# Altium footprint library SC_TSOP6.PcbLib: 1 footprints
Each footprint in its own frame and in the unit in brackets; x right, y up, seen from the top. Pads: shape width x height; smd on the part's side, far side on the other; paste and mask are expansions set on the pad; w line width, h text height; cw(c..) or ccw(c..) is an arc to the next point about the centre after c.
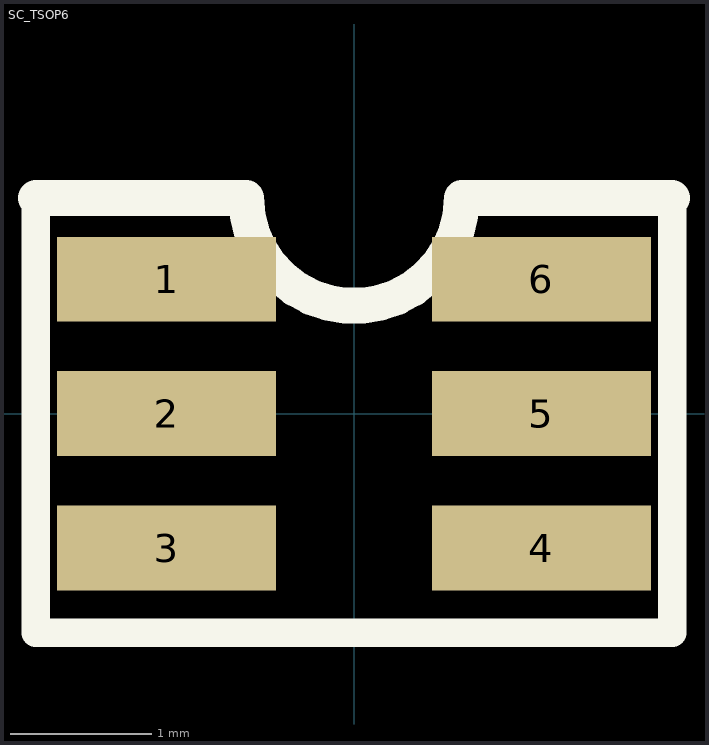
[diagram p0: the footprint, top view; thin cyan lines are the x and y axes]

## SC_TSOP6 [mm] "Thin small outline package: aka TSOT23-6"
height 1.45
pads (6):
  rect 1.55x0.6 smd: 1(-1.325,0.95) 2(-1.325,0) 3(-1.325,-0.95) 4(1.325,-0.95) 5(1.325,0) 6(1.325,0.95)
Top Overlay:
  lines w0.2: -2.25,1.55 -2.25,-1.55 2.25,-1.55 2.25,1.55
  lines w0.254: -2.25,1.524 -0.762,1.524 ccw(c0,1.524) 0.762,1.524 2.25,1.524
3D body: height 1, standoff 0, extent -1.35,-1.5 1.35,1.5